# EAGLE library part AMD3485E (library AMD3485E)
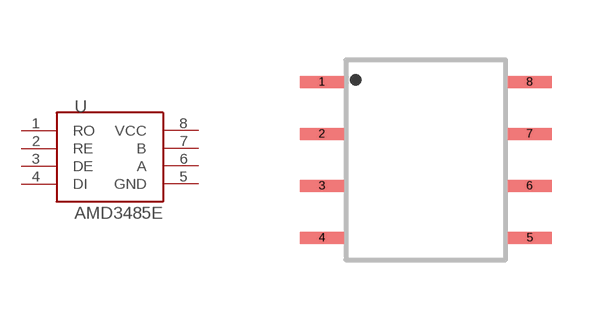
[diagram p0: symbol with the pads of AMD3485E; footprint AMD3485E]

Designator prefix -

## AMD3485E  [AMD3485E]
1  RO
2  RE
3  DE
4  DI
5  GND
6  A
7  B
8  VCC

## Footprint AMD3485E (pad centres in mm)
smd 1.1 x 0.3: 1 -2.6,1.95; 2 -2.6,0.65; 3 -2.6,-0.65; 4 -2.6,-1.95; 5 2.6,-1.95; 6 2.6,-0.65; 7 2.6,0.65; 8 2.6,1.95